# Altium integrated library HLW8012.IntLib: 1 symbol
Pins are listed as number, name and electrical type; pins without a type are passive.

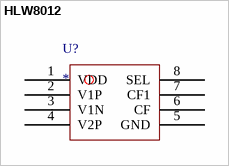
[diagram p0: symbol HLW8012]

## HLW8012
designator U?
footprint HLW8012(SOIC127P600X150-8N) (SOIC, 8-Leads, Body 5.05x3.90mm, Pitch 1.27mm, IPC Medium Density)
pins: 1 VDD, 2 V1P, 3 V1N, 4 V2P, 5 GND, 6 CF, 7 CF1, 8 SEL